# Altium footprint library WS2812-2020.PcbLib: 1 footprints
Each footprint in its own frame and in the unit in brackets; x right, y up, seen from the top. Pads: shape width x height; smd on the part's side, far side on the other; paste and mask are expansions set on the pad; w line width, h text height; cw(c..) or ccw(c..) is an arc to the next point about the centre after c.
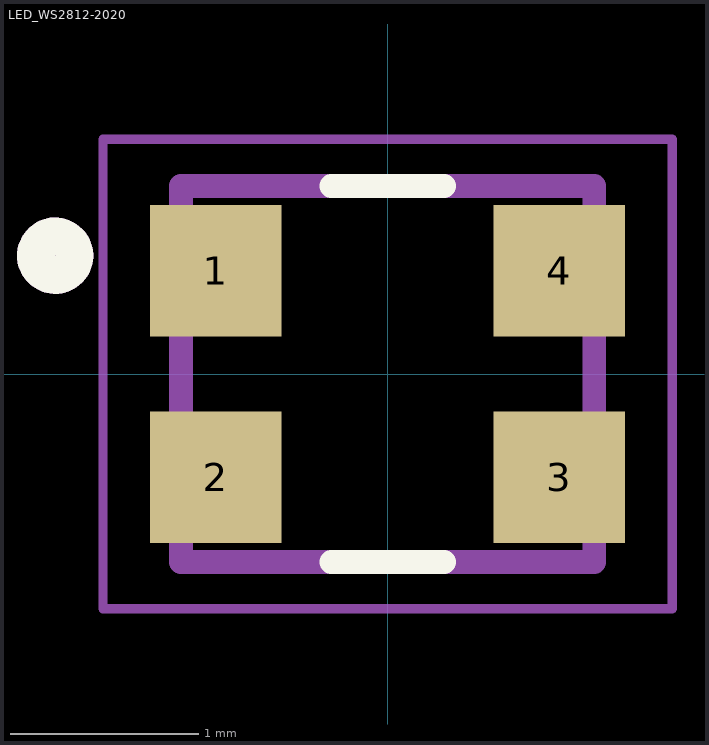
[diagram p0: the footprint, top view; thin cyan lines are the x and y axes]

## LED_WS2812-2020 [mm]
pads (4):
  rect 0.7x0.7 smd: 1(-0.915,0.55) 2(-0.915,-0.55) 3(0.915,-0.55) 4(0.915,0.55)
Top Overlay:
  circle w0.2: c-1.77,0.63 r0.103
  lines w0.127: -0.3,-1 0.3,-1 ; -0.3,1 0.3,1
Mechanical 13:
  circle w0.2: c-1.77,0.63 r0.103
  lines w0.127: -1.1,-1 -1.1,1 1.1,1 1.1,-1 -1.1,-1
Mechanical 15:
  lines w0.05: -1.515,-1.25 -1.515,1.25 1.515,1.25 1.515,-1.25 -1.515,-1.25
3D body "step_temp.STEP": height 0.84, standoff 0, extent -1.1,-1 1.1,1